# EAGLE library part PH_B7B-PH (library CASE-JST)
JST PH Connector, through hole, 7 pin, top entry Description: JST PH connector with 2.0 mm pitch, through hole version, 7 pin, top entry. Links: Datasheet <http://www.jst-mfg.com/product/pdf/eng/ePH.pdf>
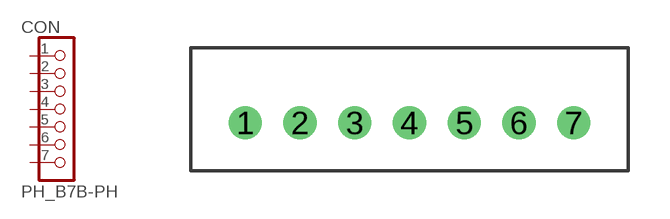
[diagram p2: symbol with the pads of B7B-PH; footprint B7B-PH]

Designator prefix CON

## PH_B7B-PH  [B7B-PH]
1  1  pas
2  2  pas
3  3  pas
4  4  pas
5  5  pas
6  6  pas
7  7  pas

## Footprint B7B-PH (pad centres in mm)
JST B7B-PH Datasheet <http://www.jst-mfg.com/product/pdf/eng/ePH.pdf>
drill 0.7: 1 -6,0; 2 -4,0; 3 -2,0; 4 0,0; 5 2,0; 6 4,0; 7 6,0